# EAGLE library part CON_DIN5 (library DSS)
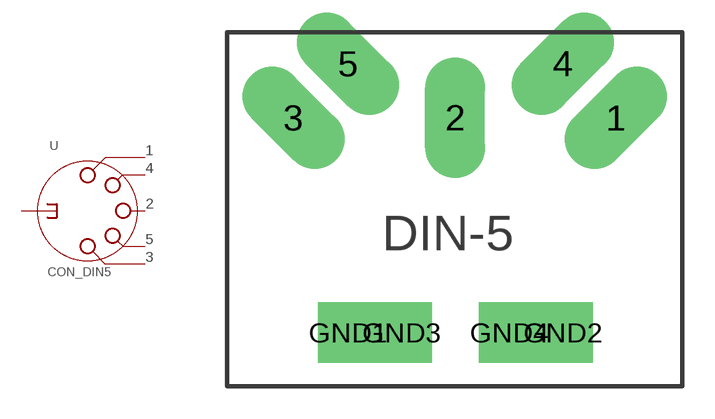
[diagram p7: symbol with the pads of DIN_5_FEMALE_SUPPORT; footprint DIN_5_FEMALE_SUPPORT]

Designator prefix -

## CON_DIN5  [DIN_5_FEMALE_SUPPORT]
1  1
2  2
3  3
4  4
5  5
GND1  GND
GND2  GND

## Footprint DIN_5_FEMALE_SUPPORT (pad centres in mm)
drill 1.4 pad 2.8 long: 1 7.94,3.6; 2 0.46,3.61; 3 -7.07,3.6; 4 5.47,6.13; 5 -4.53,6.12
drill 1.4 pad 2.8 square: GND1 -4.53,-6.382; GND2 5.478,-6.382; GND3 -2.03,-6.382; GND4 2.978,-6.382